# EAGLE library part SPM0405HD4HMODULE (library FaBo-ModulePin)
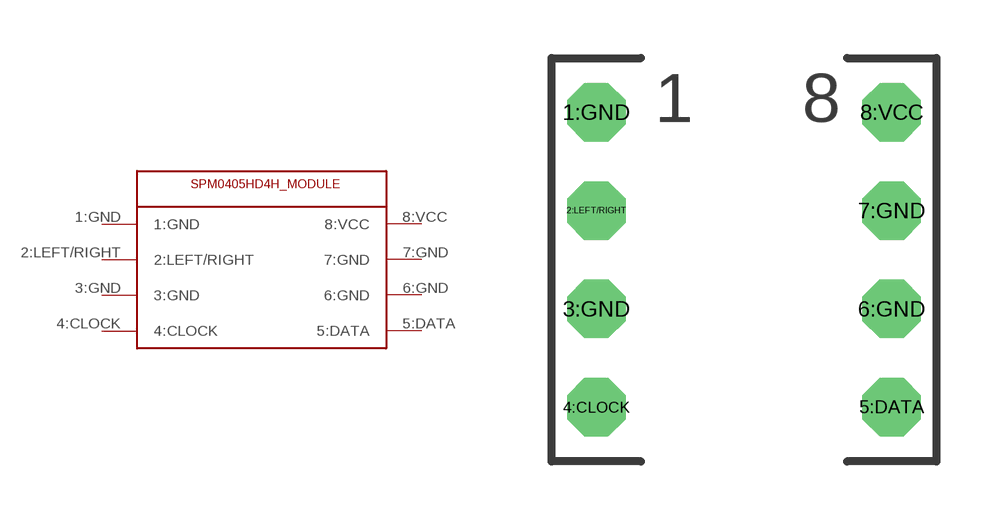
[diagram p0: symbol with the pads of MICROPHONE8PINMODULE; footprint MICROPHONE8PINMODULE]

Designator prefix -

## SPM0405HD4HMODULE  [MICROPHONE8PINMODULE]
1:GND  1:GND
2:LEFT/RIGHT  2:LEFT/RIGHT
3:GND  3:GND
4:CLOCK  4:CLOCK
5:DATA  5:DATA
6:GND  6:GND
7:GND  7:GND
8:VCC  8:VCC

## Footprint MICROPHONE8PINMODULE (pad centres in mm)
THROUGH-HOLE .025" SQ POST HEADER Source: Samtec TSW.pdf
drill 1 pad 1.5 octagon: 1:GND -3.81,3.81; 2:LEFT/RIGHT -3.81,1.27; 3:GND -3.81,-1.27; 4:CLOCK -3.81,-3.81; 5:DATA 3.81,-3.81; 6:GND 3.81,-1.27; 7:GND 3.81,1.27; 8:VCC 3.81,3.81